# Altium footprint library ESMARC V5.0.PcbLib: 59 footprints (part 1 of 4)
Each footprint in its own frame and in the unit in brackets; x right, y up, seen from the top. Pads: shape width x height; smd on the part's side, far side on the other; paste and mask are expansions set on the pad; w line width, h text height; cw(c..) or ccw(c..) is an arc to the next point about the centre after c.
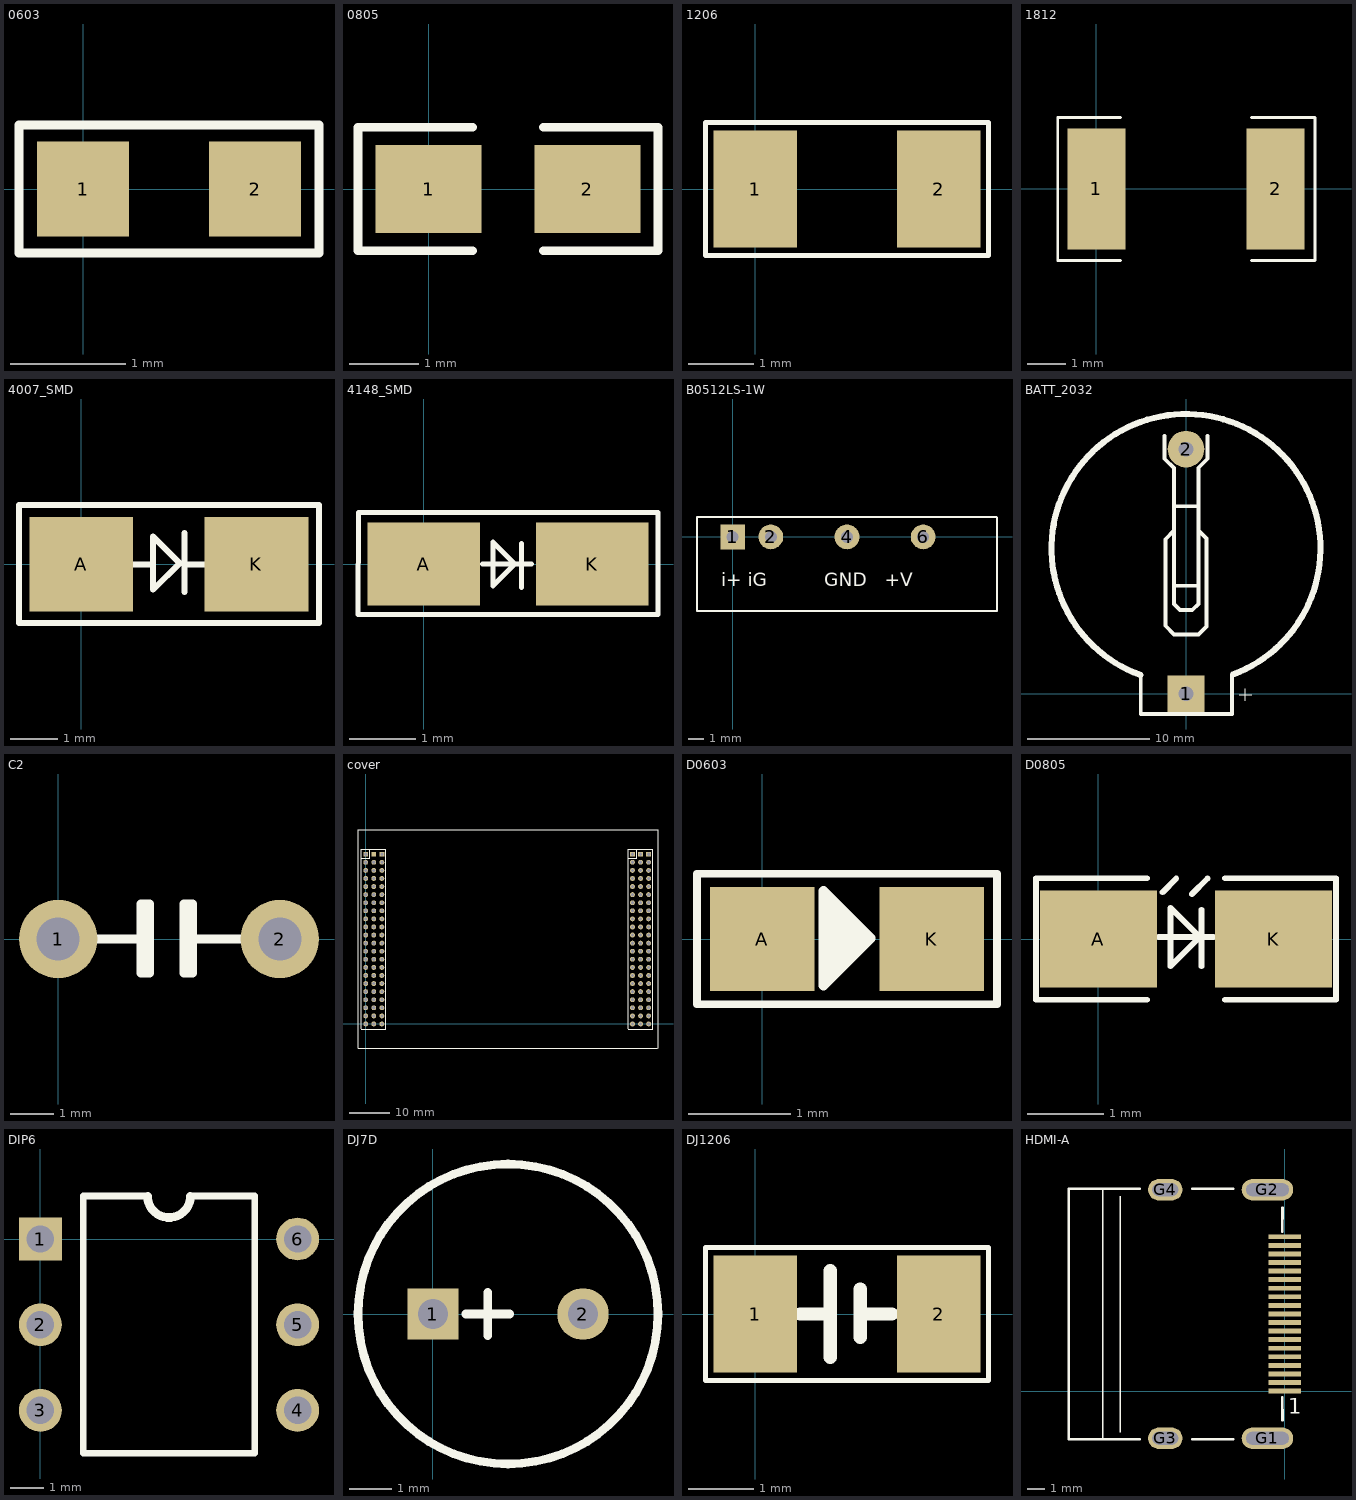
[diagram p0: the footprints below, top view; thin cyan lines are the x and y axes]

## 0603 [mm]
pads (2):
  rect 0.8x0.83 smd: 1(0,0) 2(1.5,0)
Top Overlay:
  lines w0.076: -0.559,-0.559 -0.559,0.559 2.057,0.559 2.057,-0.559 -0.559,-0.559

## 0805 [mil]
pads (2):
  rect 60x50 smd: 1(0,0) 2(90,0)
Top Overlay:
  lines w5: 25,-35 -40,-35 -40,35 25,35 ; 65,-35 130,-35 130,35 65,35

## 1206 [mil]
pads (2):
  rect 50x70 smd: 1(0,0) 2(110,0)
Top Overlay:
  lines w3: -30,-40 -30,40 140,40 140,-40 -30,-40

## 1812 [mil]
pads (2):
  rect 60x125 smd: 1(0,0) 2(185,0)
Top Overlay:
  lines w3: 25,-74 -40,-74 -40,74 25,74 ; 160,-74 226,-74 226,74 160,74

## 4007_SMD [mm]
pads (2):
  rect 2.2x2 smd: A(0,0) K(3.708,0)
Top Overlay:
  lines w0.127: 1.04,-0.001 1.523,-0.001 ; 2.006,0.101 2.082,0.024 ; 2.183,-0.585 2.183,0.659 ; 2.183,-0.001 2.641,-0.001 ; 3.988,1.255 4.002,1.255 ; 2.082,0.024 1.523,-0.534 1.523,0.583 2.082,0.024 ; -1.318,-1.245 5.032,-1.245 5.032,1.255 -1.318,1.255 -1.318,-1.245

## 4148_SMD [mm]
pads (2):
  rect 1.7x1.25 smd: A(0,0) K(2.54,0)
Top Overlay:
  lines w0.076: 0.889,0 1.626,0 ; 1.473,-0.356 1.473,0.305 ; 2.286,0.778 3.235,0.778 ; 2.438,-0.761 3.277,-0.761 ; 3.235,0.778 -0.981,0.778 -0.99,-0.761 3.277,-0.761 ; 3.235,0.778 3.531,0.778 3.531,-0.761 3.277,-0.761 ; 1.041,-0.33 1.041,0.33 1.372,0 1.041,-0.33

## B0512LS-1W [mil]
pads (4):
  rect 65x65 hole 31.5: 1(0,0)
  round 65 hole 31.5: 2(100,0) 4(300,0) 6(500,0)
Top Overlay:
  lines w5: -93.7,51.58 -93.7,-194.49 693.7,-194.49 693.7,51.58 ; -93.5,52.17 692.91,52.17
  text "GND   +V" at 240,-130 h35
  text "i+ iG" at -30,-130 h35

## BATT_2032 [mil]
pads (2):
  rect 118x118 hole 47: 1(0,0)
  round 118 hole 47: 2(0,788)
Top Overlay:
  lines w3: 171,-3 211,-3 ; 191,-23 191,17
  lines w12: -146,60.33 -146,-65 148,-65 148,62.11 ; -69,831 -69,757 -39,727 -39,289 -19,270 20,270 40,289 40,728 69,757 69,830 ; -39,-20 -19,-39 20,-39 40,-20 ; -39,348 40,348 ; -39,526 -66,497.58 -66,219.42 -39,191 40,191 66,217 66,500 40,526 ; -39,604 40,604
  lines w19.68: -146.14,60.33 cw(c0,468) 151,62.11

## C2 [mil]
pads (2):
  round 71 hole 39: 1(0,0) 2(201,0)
Top Overlay:
  lines w8: 0,0 75,0 ; 201,0 114,0 ; 75,0 75,32 79,32 83,32 83,-31 75,-31 75,0 ; 114,0 114,32 122,32 122,-31 114,-31 114,0

## cover [mm]
pads (132):
  rect 1.2x1.2 hole 0.8: A1(0,42) C1(4,42) D1(66,42) E1(68,42) F1(70,42)
  round 1.2 hole 0.8: A2(0,40) A3(0,38) A4(0,36) A5(0,34) A6(0,32) A7(0,30) A8(0,28) A9(0,26) A10(0,24) A11(0,22) A12(0,20) A13(0,18) A14(0,16) A15(0,14) A16(0,12) A17(0,10) A18(0,8) A19(0,6) A20(0,4) A21(0,2) A22(0,0) B2(2,40) B3(2,38) B4(2,36) B5(2,34) B6(2,32) B7(2,30) B8(2,28) B9(2,26) B10(2,24) B11(2,22) B12(2,20) B13(2,18) B14(2,16) B15(2,14) B16(2,12) B17(2,10) B18(2,8) B19(2,6) B20(2,4) B21(2,2) B22(2,0) C2(4,40) C3(4,38) C4(4,36) C5(4,34) C6(4,32) C7(4,30) C8(4,28) C9(4,26) C10(4,24) C11(4,22) C12(4,20) C13(4,18) C14(4,16) C15(4,14) C16(4,12) C17(4,10) C18(4,8) C19(4,6) C20(4,4) C21(4,2) C22(4,0) D2(66,40) D3(66,38) D4(66,36) D5(66,34) D6(66,32) D7(66,30) D8(66,28) D9(66,26) D10(66,24) D11(66,22) D12(66,20) D13(66,18) D14(66,16) D15(66,14) D16(66,12) D17(66,10) D18(66,8) D19(66,6) D20(66,4) D21(66,2) D22(66,0) E2(68,40) E3(68,38) E4(68,36) E5(68,34) E6(68,32) E7(68,30) E8(68,28) E9(68,26) E10(68,24) E11(68,22) E12(68,20) E13(68,18) E14(68,16) E15(68,14) E16(68,12) E17(68,10) E18(68,8) E19(68,6) E20(68,4) E21(68,2) E22(68,0) F2(70,40) F3(70,38) F4(70,36) F5(70,34) F6(70,32) F7(70,30) F8(70,28) F9(70,26) F10(70,24) F11(70,22) F12(70,20) F13(70,18) F14(70,16) F15(70,14) F16(70,12) F17(70,10) F18(70,8) F19(70,6) F20(70,4) F21(70,2) F22(70,0)
  rect 1.2x1.2 all layers, no hole: B1(2,42)
Top Overlay:
  lines w0.203: -1.041,-1.25 4.978,-1.25 ; -1.041,-1.231 -1.041,43.245 ; -1.041,40.959 1.016,40.959 1.016,43.219 ; -1.041,43.25 4.978,43.25 ; 5,-1.231 5,43.245 ; 64.959,-1.25 70.978,-1.25 ; 64.959,-1.231 64.959,43.245 ; 64.959,40.959 67.016,40.959 67.016,43.219 ; 64.959,43.25 70.978,43.25 ; 71,-1.231 71,43.245
  lines w0.254: -1.905,-5.974 -1.905,48.026 72.095,48.026 ; -1.905,-5.949 72.095,-5.949 ; 72.314,-5.974 72.314,48.026
Bottom Overlay:
  lines w0.203: -1.041,40.959 -1.041,43.016 ; -1.041,40.959 1.016,40.959 1.016,43.016 -1.041,43.016 ; -1.041,40.959 -1.041,43.016 ; 64.959,40.959 64.959,43.016 ; 64.959,40.959 67.016,40.959 67.016,43.016 64.959,43.016 ; 64.959,40.959 64.959,43.016

## D0603 [mil]
height 150
pads (2):
  rect 40x40 smd: A(0,0) K(65,0)
Top Overlay:
  lines w3: -25,-25 90,-25 90,25 -25,25 -25,-25
  lines w3.94: 23.5,-13.58 27.64,-13.58 ; 23.5,-9.64 31.58,-9.64 ; 23.5,-5.7 35.52,-5.7 ; 23.5,-1.76 39.46,-1.76 ; 23.5,2.17 39.61,2.17 ; 23.5,6.11 35.67,6.11 ; 23.5,10.05 31.73,10.05 ; 23.5,13.98 27.8,13.98 ; 27.17,-14.05 27.17,14.61 ; 31.11,-10.11 31.11,10.67 ; 35.05,-6.17 35.05,6.73 ; 38.98,-2.24 38.98,2.8 ; 23.5,-17.72 41.5,0.28 23.5,18.28 23.5,-17.72

## D0805 [mil]
pads (2):
  rect 60x50 smd: A(0,0) K(90,0)
Top Overlay:
  lines w3: 25,-31.22 -32,-31.22 -32,31.22 25,31.22 ; 31,1 59,1 ; 33,24 40,31 ; 48,23 56,31 ; 53,-14 53,15 ; 65,-31.22 122,-31.22 122,31.22 65,31.22 ; 37,-14 37,16 52,1 37,-14

## DIP6 [mil]
pads (6):
  rect 50x50 hole 32: 1(0,0)
  round 50 hole 32: 2(0,-100) 3(0,-200) 4(300,-200) 5(300,-100) 6(300,0)
Top Overlay:
  lines w8: 125,50 50,50 50,-250 250,-250 250,50 175,50
  lines w10: 125,50 ccw(c150,50) 175,50

## DJ7D [mm]
pads (2):
  rect 1.2x1.2 hole 0.7: 1(0,0)
  round 1.2 hole 0.7: 2(3.5,0)
Top Overlay:
  circle w0.2: c1.75,0 r3.5
  lines w0.2: 0.771,0 1.787,0 ; 1.279,-0.508 1.279,0.508

## DJ1206 [mil]
pads (2):
  rect 50x70 smd: 1(0,0) 2(110,0)
Top Overlay:
  lines w3: -30,-40 -30,40 140,40 140,-40 -30,-40
  lines w8: 27,0 45,0 ; 45,-26 45,26 ; 63,-14 63,15 ; 63,0 82,0

## HDMI-A [mm]
pads (23):
  rect 1.905x0.28 smd: 1(0,0) 2(0,0.5) 3(0,1) 4(0,1.5) 5(0,2) 6(0,2.5) 7(0,3) 8(0,3.5) 9(0,4) 10(0,4.5) 11(0,5) 12(0,5.5) 13(0,6) 14(0,6.5) 15(0,7) 16(0,7.5) 17(0,8) 18(0,8.5) 19(0,9)
  oval 3x1.25 hole 0.75 slot 2.5 at 0 deg: G1(-1,-2.754) G2(-1,11.746)
  oval 2x1.25 hole 0.75 slot 1.5 at 0 deg: G3(-6.96,-2.754) G4(-6.96,11.746)
Top Overlay:
  lines w0.076: -10.598,-2.82 -10.598,11.812 ; -9.598,-2.413 -9.598,11.354
  lines w0.152: -8.458,-2.82 -12.598,-2.82 -12.598,11.812 -8.457,11.812 ; -5.375,-2.82 -3.007,-2.82 ; -5.374,11.812 -2.999,11.812 ; -0.127,-0.356 -0.122,-1.71 ; -0.127,9.296 -0.122,10.684
  text "1" at 0.206,-1.312 h0.89